# Altium footprint library 网友.PcbLib: 6 footprints
Each footprint in its own frame and in the unit in brackets; x right, y up, seen from the top. Pads: shape width x height; smd on the part's side, far side on the other; paste and mask are expansions set on the pad; w line width, h text height; cw(c..) or ccw(c..) is an arc to the next point about the centre after c.
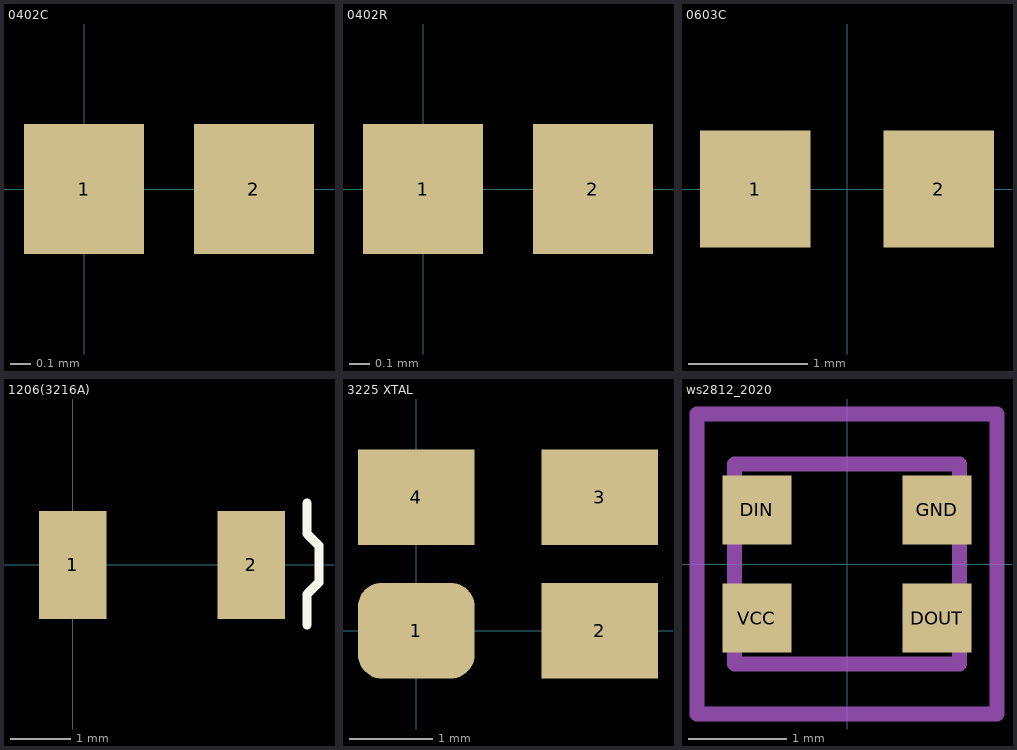
[diagram p0: the footprints below, top view; thin cyan lines are the x and y axes]

## 0402C [mm]
pads (2):
  rect 0.6x0.65 smd mask+0.051: 1(0,0) 2(0.85,0)
3D body "0402C.step": height 0.55, standoff 0, extent -0.1,-0.279 0.95,0.271

## 0402R [mm]
pads (2):
  rect 0.6x0.65 smd mask+0.051: 1(0,0) 2(0.85,0)
3D body "RES0402.STEP": height 0.35, standoff 0, extent -0.075,-0.25 0.925,0.25

## 0603C [mm]
pads (2):
  rect 0.93x0.98 smd: 1(-0.77,0) 2(0.77,0)
3D body "0603C.stp": height 0.87, standoff 0, extent -0.85,-0.483 0.9,0.467

## 1206(3216A) [mm]
pads (2):
  rect 1.13x1.8 smd: 1(0,0) 2(2.98,0)
Top Overlay:
  lines w0.152: 3.915,-1 3.915,-0.492 4.115,-0.292 4.115,0.324 3.915,0.524 3.915,1.032
3D body "TAN 1206.STEP": height 1.8, standoff 0, extent -0.223,-0.9 3.177,0.9

## 3225 XTAL [mm]
pads (4):
  rrect50% 1.4x1.15 smd: 1(0,0)
  rect 1.4x1.15 smd: 2(2.2,0) 3(2.2,1.6) 4(0,1.6)
3D body "3225 X.step": height 0.79, standoff -0.01, extent -0.483,-0.439 2.719,2.063

## ws2812_2020 [mm]
pads (4):
  rect 0.7x0.7 smd mask+0.07: DIN(-0.915,0.55) DOUT(0.915,-0.55) GND(0.915,0.55) VCC(-0.915,-0.55)
Mechanical 11:
  lines w0.152: -1.143,-1.016 -1.143,1.016 1.143,1.016 1.143,-1.016 -1.143,-1.016
Mechanical 15 (Mech15):
  lines w0.152: -1.524,-1.524 1.524,-1.524 1.524,1.524 -1.524,1.524 -1.524,-1.524